# Altium footprint library SOT143-STD.PcbLib: 1 footprints
Each footprint in its own frame and in the unit in brackets; x right, y up, seen from the top. Pads: shape width x height; smd on the part's side, far side on the other; paste and mask are expansions set on the pad; w line width, h text height; cw(c..) or ccw(c..) is an arc to the next point about the centre after c.
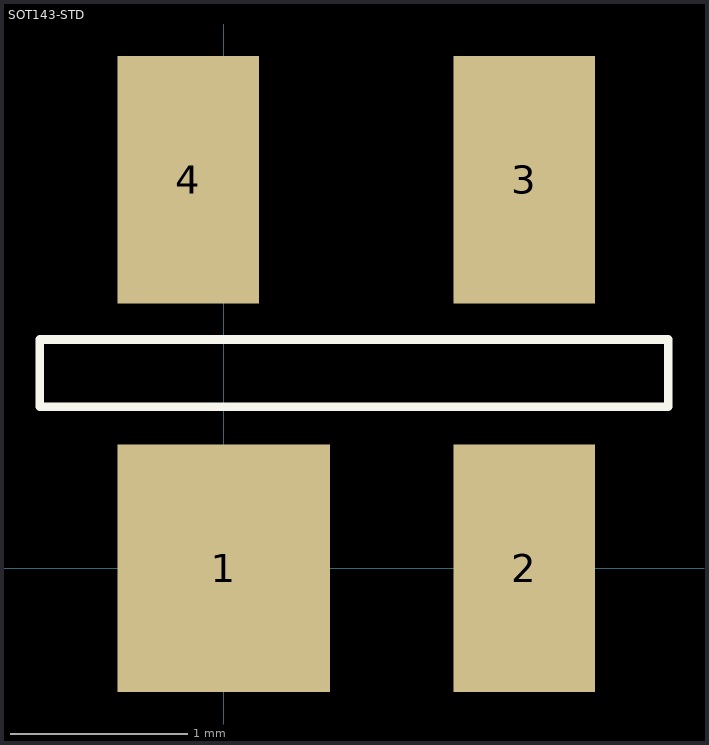
[diagram p0: the footprint, top view; thin cyan lines are the x and y axes]

## SOT143-STD [mm]
pads (4):
  rect 1.2x1.4 smd: 1(0,0)
  rect 0.8x1.4 smd: 2(1.7,0) 3(1.7,2.2) 4(-0.2,2.2)
Top Overlay:
  lines w0.05: 2.499,1.295 -1.041,1.295 -1.041,0.914 2.515,0.914 2.515,1.295
3D body: height 1, standoff 0, extent -0.749,-0.092 2.171,2.328